# Altium schematic symbol library LED.SchLib: 21 symbols
Pins are listed as number, name and electrical type; pins without a type are passive.

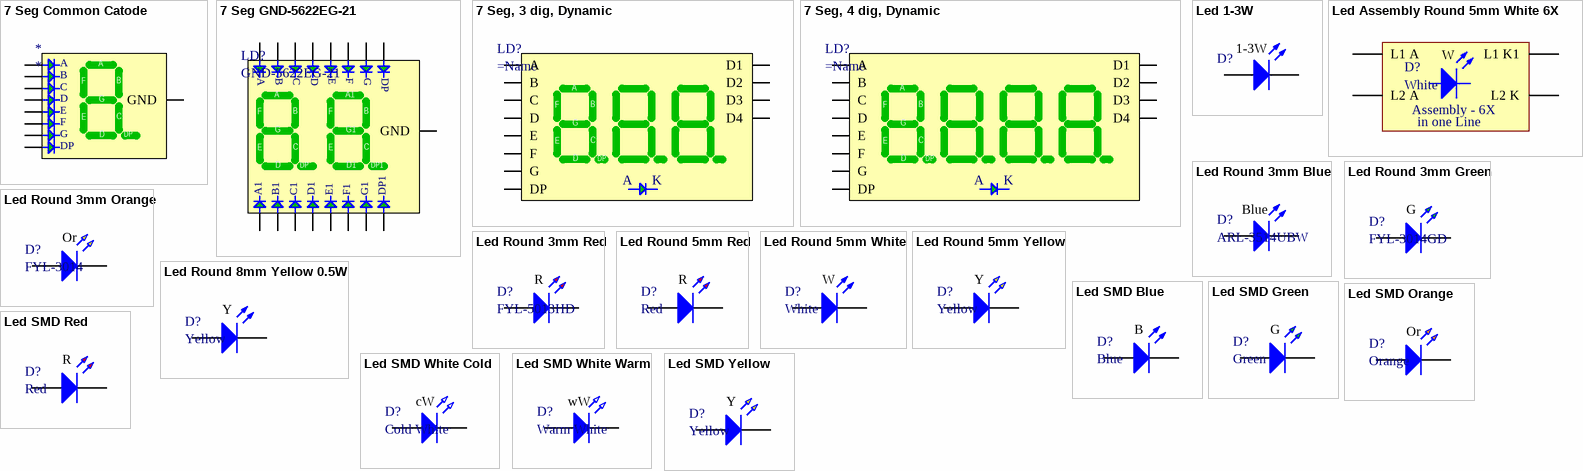
[diagram p0: symbols 7 Seg Common Catode to Led SMD Yellow]

## 7 Seg Common Catode
designator *
Green,
pins: GND, K, K, K, K, K, K, K, K
text: A; B; F; C; G; D; E; DP

## 7 Seg GND-5622EG-21
designator LD?, comment GND-5622EG-21
Green, Common Catode 2 Digits; V Forw: 2.1v; I (amp): 10-20mA; Type: Commopn Catode (GND); Wave: 565nm; Lum: 8-11mCd; Digit Heigh: 14.2mm; Name: GND-5622EG-21; Color: Green; Size: 19x25х8,0mm; Price: 30RUR in 2014year
footprint GND-5622EG-21 (7 Seg, 2 Digits, Static, GND)
pins: A, A1, B, B1, C, C1, D, D1, DP, DP1, E, E1, F, F1, G, G1, GND

## 7 Seg, 3 dig, Dynamic
designator LD?
Dynamic Common Catode/Anode 3 Digits Display
footprint 7 seg, Dyn, 3 Digit (7 Seg, 3 Digits, Dynamic)
pins: A, B, C, D, D1, D2, D3, D4, DP, E, F, G
text: K

## 7 Seg, 4 dig, Dynamic
designator LD?
Dynamic Common Catode/Anode 4 Digits Display
footprint 7 seg, Dyn, 4 Digit (7 Seg, 3 Digits, Dynamic)
pins: A, B, C, D, D1, D2, D3, D4, DP, E, F, G
text: K

## Led 1-3W
designator D?
1-3W; Color: Any
footprint LED SMD 1W 3W
footprint LED SMD 1W 3W Compact
pins: A, K

## Led Assembly Round 5mm White 6X
designator D?, comment White
3.2-3.4v 25mA, 16-20cd; Forward Voltage Min: 3.2; Forward Voltage TYP: 3.4; Wave len min/typ: 5000/6500; Liminous Min (mcd): 16000; Liminous Typ (mcd): 20000; Forward Amp (mA): 25; Color: White
footprint LED Assembly Round 5mm White 6X (Assembly 6X in one line)
footprint LED Assembly Round 5mm White 6X 0.5mm (Assembly 6X in one line, distance 0.5mm)
footprint LED Assembly Round 5mm White 2X3 1mm (Assembly 2x3 in one line, distance 1mm)
footprint LED Assembly Round 5mm White 6X 1.7mm (Assembly 6X in one line, distance 1.7mm)
pins: A1 L1 A, A2 L2 A, K1 L1 K1, K2 L2 K
text: W; Assembly - 6X; in one Line

## Led Round 3mm Blue
designator D?, comment ARL-3514UBW
3v 20mA, 600-1000mCd; Forward Voltage Max: 3.5; Forward Voltage TYP: 3; Wave len min/typ: 460-470nm; Forward Amp (mA): 20; Color: Green; Liminous Typ (mcd): 600-1000; Name: ARL-3514UBW
footprint LED Round 3mm Blue
pins: A, K
text: Blue

## Led Round 3mm Green
designator D?, comment FYL-3014GD
2.1v 10mA, 15-30mCd; Forward Voltage Max: 2.3; Forward Voltage TYP: 2.1; Wave len min/typ: 570nm; Liminous Typ (mcd): 15-30; Forward Amp (mA): 10; Color: Green; Name: FYL-3014GD
footprint LED Round 3mm Green
pins: A, K
text: G

## Led Round 3mm Orange
designator D?, comment FYL-3014
2.1v 10mA, 30mCd; Forward Voltage TYP: 2.1; Wave len min/typ: ?nm; Liminous Typ (mcd): 15-30; Forward Amp (mA): 10; Color: Orange; Forward Voltage Max: ?; Name: FYL-3014
footprint LED Round 3mm Yellow
pins: A, K
text: Or

## Led Round 3mm Red
designator D?, comment FYL-5013HD
2.25v 10mA, 5mCd; Forward Voltage Max: 2.5; Forward Voltage TYP: 2.25; Wave len min/typ: 700nm; Liminous Typ (mcd): 5; Forward Amp (mA): 10; Color: Red; Name: FYL-5013HD
footprint LED Round 3mm red
pins: A, K
text: R

## Led Round 5mm Red
designator D?, comment Red
1.8-2v 20mA, 4-5cd; Forward Voltage Min: 1.8; Forward Voltage TYP: 2; Wave len min/typ: 615/625; Liminous Min (mcd): 4000; Liminous Typ (mcd): 5000; Forward Amp (mA): 20; Color: Red
footprint LED Round 5mm red
pins: A, K
text: R

## Led Round 5mm White
designator D?, comment White
3.2-3.4v 25mA, 16-20cd; Forward Voltage Min: 3.2; Forward Voltage TYP: 3.4; Wave len min/typ: 5000/6500; Liminous Min (mcd): 16000; Liminous Typ (mcd): 20000; Forward Amp (mA): 25; Color: White
footprint LED Round 5mm White
pins: A, K
text: W

## Led Round 5mm Yellow
designator D?, comment Yellow
2.8-3v 25mA, 4-5cd; Forward Voltage Min: 2.8; Forward Voltage TYP: 3; Wave len min/typ: 580/590; Liminous Min (mcd): 4000; Liminous Typ (mcd): 5000; Forward Amp (mA): 25; Color: Yellow
footprint LED Round 5mm Yellow
pins: A, K
text: Y

## Led Round 8mm Yellow 0.5W
designator D?, comment Yellow
2.8-3v 25mA, 4-5cd; Forward Voltage Min: 2.8; Forward Voltage TYP: 3; Wave len min/typ: 580/590; Liminous Min (mcd): 4000; Liminous Typ (mcd): 5000; Forward Amp (mA): 25; Color: Yellow
footprint LED Round 8mm Yellow
pins: A, K
text: Y

## Led SMD Blue
designator D?, comment Blue
?2v ?20mA; Forward Voltage TYP: ?2; Resistor for 5v VCC: 330 Om; Forward Voltage Min: ?; Wave len min/typ: ?; Liminous Min (mcd): ?; Liminous Typ (mcd): ?; Forward Amp (mA): ?; Color: Blue
footprint LED SMD 0805 Blue
footprint LED SMD 0603 Blue
footprint LED SMD 1206 Blue
pins: A, K
text: B

## Led SMD Green
designator D?, comment Green
?2v ?20mA; Forward Voltage TYP: ?2; Resistor for 5v VCC: 330 Om; Forward Voltage Min: ?; Wave len min/typ: ?; Liminous Min (mcd): ?; Liminous Typ (mcd): ?; Forward Amp (mA): ?; Color: Green
footprint LED SMD 0805 Green
footprint LED SMD 0603 Green
footprint LED SMD 1206 Green
pins: A, K
text: G

## Led SMD Orange
designator D?, comment Orange
?2v ?20mA; Forward Voltage TYP: ?2; Resistor for 5v VCC: 330 Om; Forward Voltage Min: ?; Wave len min/typ: ?; Liminous Min (mcd): ?; Liminous Typ (mcd): ?; Forward Amp (mA): ?; Color: Orange
footprint LED SMD 0805 Orange
footprint LED SMD 0603 Orange
footprint LED SMD 1206 Orange
footprint LED SMD 1206-0805 Orange
pins: A, K
text: Or

## Led SMD Red
designator D?, comment Red
?2v ?20mA; Forward Voltage TYP: ?2; Resistor for 5v VCC: 330 Om; Forward Voltage Min: ?; Wave len min/typ: ?; Liminous Min (mcd): ?; Liminous Typ (mcd): ?; Forward Amp (mA): ?; Color: Red
footprint LED SMD 0805 Red
footprint LED SMD 0603 Red
footprint LED SMD 1206 Red
pins: A, K
text: R

## Led SMD White Cold
designator D?, comment Cold White
?3v ?20mA; Forward Voltage TYP: ?3; Resistor for 5v VCC: 240 Om; Forward Voltage Min: ?; Wave len min/typ: ?; Liminous Min (mcd): ?; Liminous Typ (mcd): ?; Forward Amp (mA): ?; Color: Cold White
footprint LED SMD 0603 White
footprint LED SMD 1206 White
footprint LED SMD 3528 White
footprint LED SMD 5050 White compact R
footprint LED SMD 5730 White
footprint LED SMD 5050 White compact Parrl
pins: A, K
text: cW

## Led SMD White Warm
designator D?, comment Warm White
?3v ?20mA; Forward Voltage TYP: ?3; Resistor for 5v VCC: 240 Om; Forward Voltage Min: ?; Wave len min/typ: ?; Liminous Min (mcd): ?; Liminous Typ (mcd): ?; Forward Amp (mA): ?; Color: Warm White
footprint LED SMD 0603 White
footprint LED SMD 1206 White
footprint LED SMD 3528 White
footprint LED SMD 5050 White compact R
footprint LED SMD 5730 White
footprint LED SMD 5050 White compact Parrl
pins: A, K
text: wW

## Led SMD Yellow
designator D?, comment Yellow
?2v ?20mA; Forward Voltage TYP: ?2; Resistor for 5v VCC: 330 Om; Forward Voltage Min: ?; Wave len min/typ: ?; Liminous Min (mcd): ?; Liminous Typ (mcd): ?; Forward Amp (mA): ?; Color: Yellow
footprint LED SMD 0805 Yellow
footprint LED SMD 0603 Yellow
footprint LED SMD 1206 Yellow
pins: A, K
text: Y